# EAGLE library part STM32F429Z (library PatternAgents-STM)
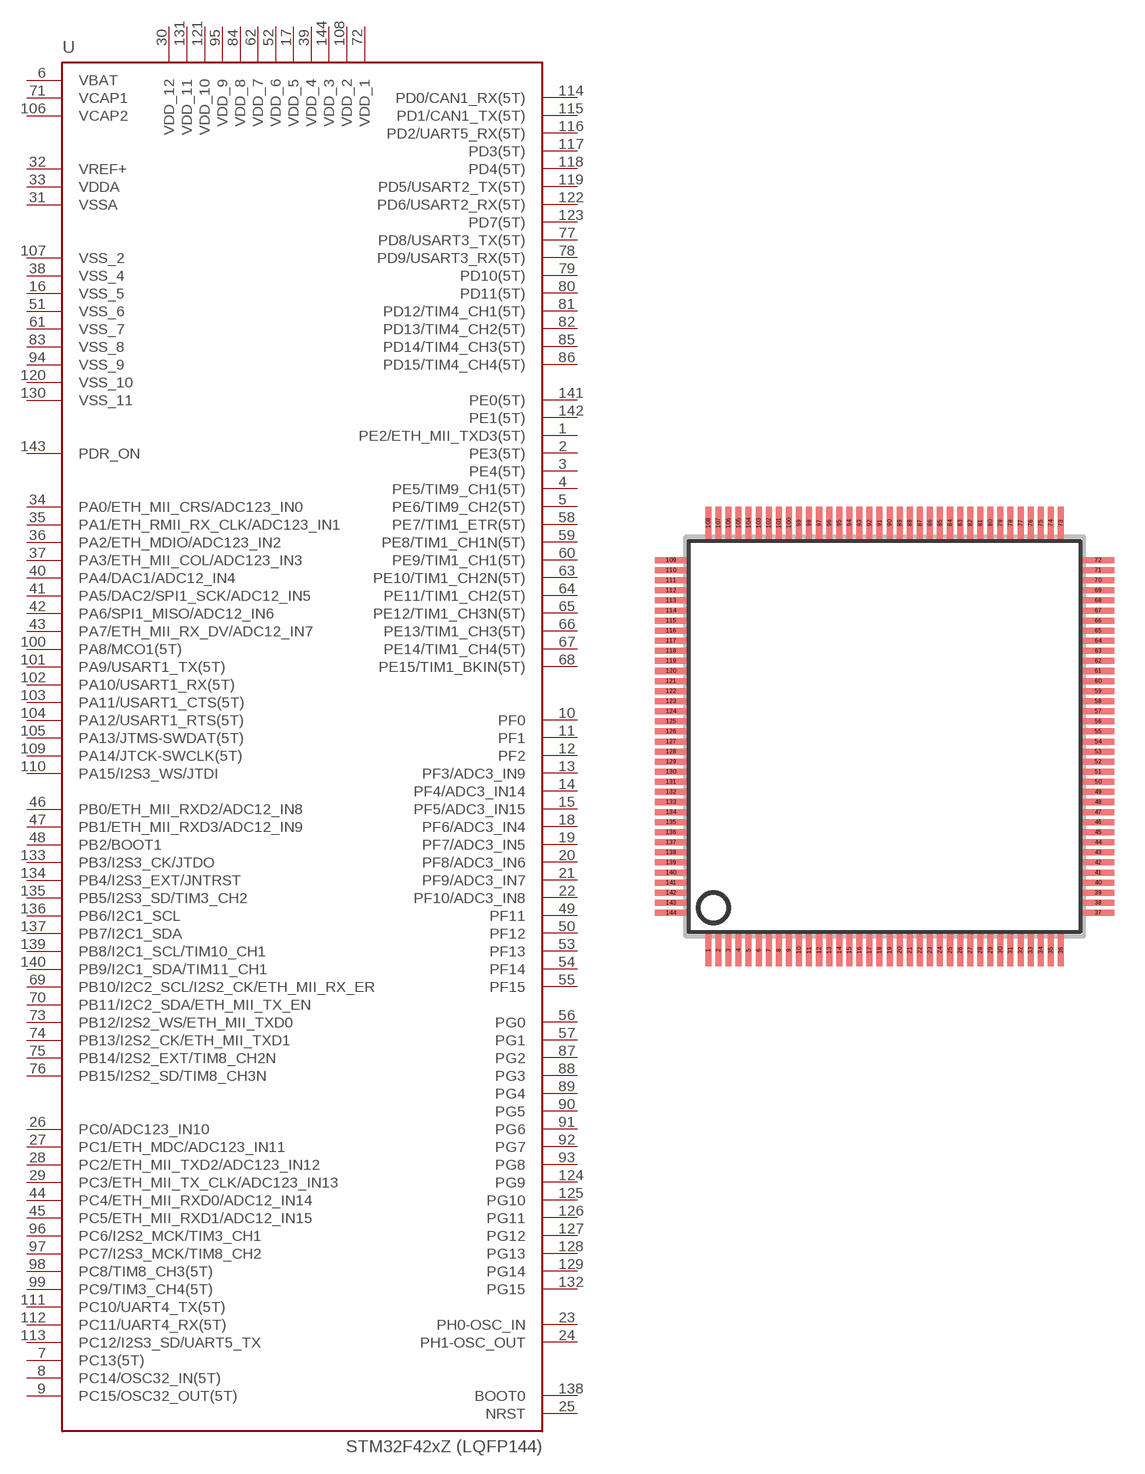
[diagram p5: symbol with the pads of LQFP144; footprint LQFP144]

Designator prefix U

## STM32F429ZI  [LQFP144]
1  PE2/ETH_MII_TXD3(5T)
2  PE3(5T)
3  PE4(5T)
4  PE5/TIM9_CH1(5T)
5  PE6/TIM9_CH2(5T)
6  VBAT
7  PC13(5T)
8  PC14/OSC32_IN(5T)
9  PC15/OSC32_OUT(5T)
10  PF0
11  PF1
12  PF2
13  PF3/ADC3_IN9
14  PF4/ADC3_IN14
15  PF5/ADC3_IN15
16  VSS_5
17  VDD_5
18  PF6/ADC3_IN4
19  PF7/ADC3_IN5
20  PF8/ADC3_IN6
21  PF9/ADC3_IN7
22  PF10/ADC3_IN8
23  PH0-OSC_IN
24  PH1-OSC_OUT
25  NRST
26  PC0/ADC123_IN10
27  PC1/ETH_MDC/ADC123_IN11
28  PC2/ETH_MII_TXD2/ADC123_IN12
29  PC3/ETH_MII_TX_CLK/ADC123_IN13
30  VDD_12
31  VSSA
32  VREF+
33  VDDA
34  PA0/ETH_MII_CRS/ADC123_IN0
35  PA1/ETH_RMII_RX_CLK/ADC123_IN1
36  PA2/ETH_MDIO/ADC123_IN2
37  PA3/ETH_MII_COL/ADC123_IN3
38  VSS_4
39  VDD_4
40  PA4/DAC1/ADC12_IN4
41  PA5/DAC2/SPI1_SCK/ADC12_IN5
42  PA6/SPI1_MISO/ADC12_IN6
43  PA7/ETH_MII_RX_DV/ADC12_IN7
44  PC4/ETH_MII_RXD0/ADC12_IN14
45  PC5/ETH_MII_RXD1/ADC12_IN15
46  PB0/ETH_MII_RXD2/ADC12_IN8
47  PB1/ETH_MII_RXD3/ADC12_IN9
48  PB2/BOOT1
49  PF11
50  PF12
51  VSS_6
52  VDD_6
53  PF13
54  PF14
55  PF15
56  PG0
57  PG1
58  PE7/TIM1_ETR(5T)
59  PE8/TIM1_CH1N(5T)
60  PE9/TIM1_CH1(5T)
61  VSS_7
62  VDD_7
63  PE10/TIM1_CH2N(5T)
64  PE11/TIM1_CH2(5T)
65  PE12/TIM1_CH3N(5T)
66  PE13/TIM1_CH3(5T)
67  PE14/TIM1_CH4(5T)
68  PE15/TIM1_BKIN(5T)
69  PB10/I2C2_SCL/I2S2_CK/ETH_MII_RX_ER
70  PB11/I2C2_SDA/ETH_MII_TX_EN
71  VCAP1
72  VDD_1
73  PB12/I2S2_WS/ETH_MII_TXD0
74  PB13/I2S2_CK/ETH_MII_TXD1
75  PB14/I2S2_EXT/TIM8_CH2N
76  PB15/I2S2_SD/TIM8_CH3N
77  PD8/USART3_TX(5T)
78  PD9/USART3_RX(5T)
79  PD10(5T)
80  PD11(5T)
81  PD12/TIM4_CH1(5T)
82  PD13/TIM4_CH2(5T)
83  VSS_8
84  VDD_8
85  PD14/TIM4_CH3(5T)
86  PD15/TIM4_CH4(5T)
87  PG2
88  PG3
89  PG4
90  PG5
91  PG6
92  PG7
93  PG8
94  VSS_9
95  VDD_9
96  PC6/I2S2_MCK/TIM3_CH1
97  PC7/I2S3_MCK/TIM8_CH2
98  PC8/TIM8_CH3(5T)
99  PC9/TIM3_CH4(5T)
100  PA8/MCO1(5T)
101  PA9/USART1_TX(5T)
102  PA10/USART1_RX(5T)
103  PA11/USART1_CTS(5T)
104  PA12/USART1_RTS(5T)
105  PA13/JTMS-SWDAT(5T)
106  VCAP2
107  VSS_2
108  VDD_2
109  PA14/JTCK-SWCLK(5T)
110  PA15/I2S3_WS/JTDI
111  PC10/UART4_TX(5T)
112  PC11/UART4_RX(5T)
113  PC12/I2S3_SD/UART5_TX
114  PD0/CAN1_RX(5T)
115  PD1/CAN1_TX(5T)
116  PD2/UART5_RX(5T)
117  PD3(5T)
118  PD4(5T)
119  PD5/USART2_TX(5T)
120  VSS_10
121  VDD_10
122  PD6/USART2_RX(5T)
123  PD7(5T)
124  PG9
125  PG10
126  PG11
127  PG12
128  PG13
129  PG14
130  VSS_11
131  VDD_11
132  PG15
133  PB3/I2S3_CK/JTDO
134  PB4/I2S3_EXT/JNTRST
135  PB5/I2S3_SD/TIM3_CH2
136  PB6/I2C1_SCL
137  PB7/I2C1_SDA
138  BOOT0
139  PB8/I2C1_SCL/TIM10_CH1
140  PB9/I2C1_SDA/TIM11_CH1
141  PE0(5T)
142  PE1(5T)
143  PDR_ON
144  VDD_3

## Footprint LQFP144 (pad centres in mm)
smd 0.3 x 1.6: 1 -8.75,-10.6; 2 -8.25,-10.6; 3 -7.75,-10.6; 4 -7.25,-10.6; 5 -6.75,-10.6; 6 -6.25,-10.6; 7 -5.75,-10.6; 8 -5.25,-10.6; 9 -4.75,-10.6; 10 -4.25,-10.6; 11 -3.75,-10.6; 12 -3.25,-10.6; 13 -2.75,-10.6; 14 -2.25,-10.6; 15 -1.75,-10.6; 16 -1.25,-10.6; 17 -0.75,-10.6; 18 -0.25,-10.6; 19 0.25,-10.6; 20 0.75,-10.6; 21 1.25,-10.6; 22 1.75,-10.6; 23 2.25,-10.6; 24 2.75,-10.6; 25 3.25,-10.6; 26 3.75,-10.6; 27 4.25,-10.6; 28 4.75,-10.6; 29 5.25,-10.6; 30 5.75,-10.6; 31 6.25,-10.6; 32 6.75,-10.6; 33 7.25,-10.6; 34 7.75,-10.6; 35 8.25,-10.6; 36 8.75,-10.6; 73 8.75,10.6; 74 8.25,10.6; 75 7.75,10.6; 76 7.25,10.6; 77 6.75,10.6; 78 6.25,10.6; 79 5.75,10.6; 80 5.25,10.6; 81 4.75,10.6; 82 4.25,10.6; 83 3.75,10.6; 84 3.25,10.6; 85 2.75,10.6; 86 2.25,10.6; 87 1.75,10.6; 88 1.25,10.6; 89 0.75,10.6; 90 0.25,10.6; 91 -0.25,10.6; 92 -0.75,10.6; 93 -1.25,10.6; 94 -1.75,10.6; 95 -2.25,10.6; 96 -2.75,10.6; 97 -3.25,10.6; 98 -3.75,10.6; 99 -4.25,10.6; 100 -4.75,10.6; 101 -5.25,10.6; 102 -5.75,10.6; 103 -6.25,10.6; 104 -6.75,10.6; 105 -7.25,10.6; 106 -7.75,10.6; 107 -8.25,10.6; 108 -8.75,10.6
smd 1.6 x 0.3: 37 10.6,-8.75; 38 10.6,-8.25; 39 10.6,-7.75; 40 10.6,-7.25; 41 10.6,-6.75; 42 10.6,-6.25; 43 10.6,-5.75; 44 10.6,-5.25; 45 10.6,-4.75; 46 10.6,-4.25; 47 10.6,-3.75; 48 10.6,-3.25; 49 10.6,-2.75; 50 10.6,-2.25; 51 10.6,-1.75; 52 10.6,-1.25; 53 10.6,-0.75; 54 10.6,-0.25; 55 10.6,0.25; 56 10.6,0.75; 57 10.6,1.25; 58 10.6,1.75; 59 10.6,2.25; 60 10.6,2.75; 61 10.6,3.25; 62 10.6,3.75; 63 10.6,4.25; 64 10.6,4.75; 65 10.6,5.25; 66 10.6,5.75; 67 10.6,6.25; 68 10.6,6.75; 69 10.6,7.25; 70 10.6,7.75; 71 10.6,8.25; 72 10.6,8.75; 109 -10.6,8.75; 110 -10.6,8.25; 111 -10.6,7.75; 112 -10.6,7.25; 113 -10.6,6.75; 114 -10.6,6.25; 115 -10.6,5.75; 116 -10.6,5.25; 117 -10.6,4.75; 118 -10.6,4.25; 119 -10.6,3.75; 120 -10.6,3.25; 121 -10.6,2.75; 122 -10.6,2.25; 123 -10.6,1.75; 124 -10.6,1.25; 125 -10.6,0.75; 126 -10.6,0.25; 127 -10.6,-0.25; 128 -10.6,-0.75; 129 -10.6,-1.25; 130 -10.6,-1.75; 131 -10.6,-2.25; 132 -10.6,-2.75; 133 -10.6,-3.25; 134 -10.6,-3.75; 135 -10.6,-4.25; 136 -10.6,-4.75; 137 -10.6,-5.25; 138 -10.6,-5.75; 139 -10.6,-6.25; 140 -10.6,-6.75; 141 -10.6,-7.25; 142 -10.6,-7.75; 143 -10.6,-8.25; 144 -10.6,-8.75